# Altium integrated library ADLib_V11.IntLib: 13 symbols
Pins are listed as number, name and electrical type; pins without a type are passive.

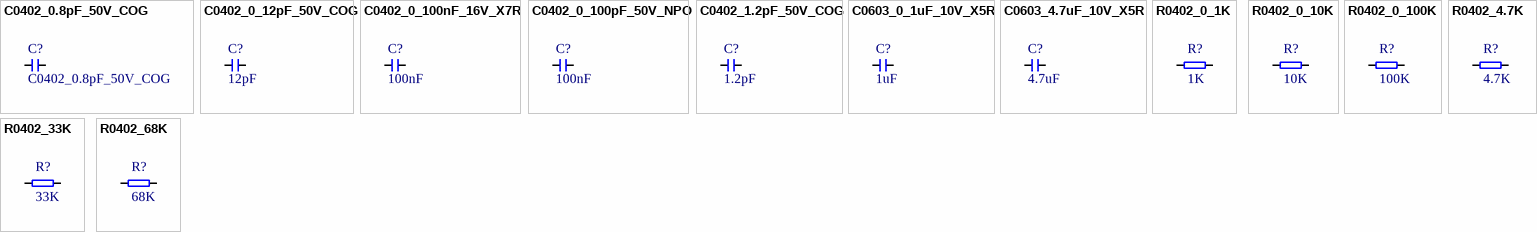
[diagram p0: symbols C0402_0.8pF_50V_COG to R0402_68K]

## C0402_0.8pF_50V_COG
designator C?
CAP0402,0.8pF, CC0402, CAP-CCER 0.8 pF B 50 VDC 0402 COG,##GRM1555C1HR80BA01D #Murata; Part Number: 280203304-00000-10; Common: NO; SMT: YES; Price(RMB): 0.01; Datasheet(URL): http://pan.baidu.com/s/1pLn1S19; RoHS: YES; Supplier: Murata
footprint C0402 (Chip Capacitor, 2-Leads, Body 1.00x0.50mm, IPC Medium Density)
pins: 1, 2

## C0402_0_12pF_50V_COG
designator C?, comment 12pF
CAP0402,12pF, CC0402, CAP-CCER 12 pF J 50 VDC 0402 COG; Part Number: 280201638-00000-10; Common: YES; Price(RMB): 0.01; RoHS: YES; SMT: YES
footprint C0402 (Chip Capacitor, 2-Leads, Body 1.00x0.50mm, IPC Medium Density)
pins: 1, 2

## C0402_0_100nF_16V_X7R
designator C?, comment 100nF
CAP0402,100nF, CC0402, CAP-CCER 100 nF K 16 VDC 0402 X7R, ##C0402X7R104K160NTB #EYANG; Part Number: 280201512-00000-10; Common: YES; Price(RMB): 0.01; SMT: YES; RoHS: YES; Supplier: EYANG; Datasheet(URL): http://pan.baidu.com/s/1jIpDSdo
footprint C0402 (Chip Capacitor, 2-Leads, Body 1.00x0.50mm, IPC Medium Density)
pins: 1, 2

## C0402_0_100pF_50V_NPO
designator C?, comment 100nF
CAP0402,100pF, CC0402, CAP-CCER 100 pF J 50 VDC 0402 NPO,##C0402C0G101J500NTB #EYANG; Part Number: 280201628-00000-10; Common: YES; Price(RMB): 0.01; SMT: YES; Supplier: EYANG; RoHS: YES; Datasheet(URL): http://pan.baidu.com/s/1jIpDSdo
footprint C0402 (Chip Capacitor, 2-Leads, Body 1.00x0.50mm, IPC Medium Density)
pins: 1, 2

## C0402_1.2pF_50V_COG
designator C?, comment 1.2pF
CAP0402,1.2pF, CC0402, CAP-CCER 1.2 pF C 50 VDC 0402 COG, ##GRM1555C1H1R2CZ01D #Murata; Part Number: 280200750-00000-10; SMT: YES; Common: NO; Price(RMB): 0.01; Supplier: Murata; RoHS: YES; Datasheet(URL): http://pan.baidu.com/s/1pLn1S19
footprint C0402 (Chip Capacitor, 2-Leads, Body 1.00x0.50mm, IPC Medium Density)
pins: 1, 2

## C0603_0_1uF_10V_X5R
designator C?, comment 1uF
CAP0603,1.0uF, CC0603, CAP-CCER 1 uF K 10 VDC 0603 X5R, ##0603ZD105KAT2A #AVX; Part Number: 280201484-00000-10; SMT: YES; Price(RMB): 0.015; RoHS: YES; Common: YES; Supplier: AVX
footprint C0603 (Chip Capacitor, 2-Leads, Body 1.60x0.80mm, IPC Medium Density)
pins: 1, 2

## C0603_4.7uF_10V_X5R
designator C?, comment 4.7uF
CAP0603,4.7uF, CC0603, CAP-CCER 4.7 uF K 10 VDC 0603 X5R, ##CL10A475KP8NNNC #Samsung; Part Number: 280202830-00000-10; SMT: YES; Common: NO; Price(RMB): 0.05; RoHS: YES; Datasheet(URL): http://pan.baidu.com/s/1i5ekBRn; Supplier: Samsung
footprint C0603 (Chip Capacitor, 2-Leads, Body 1.60x0.80mm, IPC Medium Density)
pins: 1, 2

## R0402_0_1K
designator R?, comment 1K
RES TFC 1 Kohm 0402 J 1/16W; Part Number: 280100929-00000-10; Price(RMB): 0.0024
footprint R0402 (Chip Resistor, 2-Leads, Body 1.00x0.50mm, IPC Medium Density)
pins: 1, 2

## R0402_0_10K
designator R?, comment 10K
RES TFC 10 Kohm 0402 J 1/16W; Part Number: 280100937-00000-10; Price(RMB): 0.0024
footprint R0402 (Chip Resistor, 2-Leads, Body 1.00x0.50mm, IPC Medium Density)
pins: 1, 2

## R0402_0_100K
designator R?, comment 100K
RES TFC 100 Kohm 0402 J 1/16W; Part Number: 280100941-00000-10; Price(RMB): 0.0024
footprint R0402 (Chip Resistor, 2-Leads, Body 1.00x0.50mm, IPC Medium Density)
pins: 1, 2

## R0402_4.7K
designator R?, comment 4.7K
RES TFC 4.7 Kohm 0402 J 1/16W; Part Number: 280101287-00000-10; Price(RMB): 0.0024
footprint R0402 (Chip Resistor, 2-Leads, Body 1.00x0.50mm, IPC Medium Density)
pins: 1, 2

## R0402_33K
designator R?, comment 33K
RES TFC 33 Kohm 0402 J 1/16W; Part Number: 280101205-00000-10; Price(RMB): 0.0024
footprint R0402 (Chip Resistor, 2-Leads, Body 1.00x0.50mm, IPC Medium Density)
pins: 1, 2

## R0402_68K
designator R?, comment 68K
RES TFC 68 Kohm 0402 F 1/16W; Part Number: 280101840-00000-10; Price(RMB): 0.0024
footprint R0402 (Chip Resistor, 2-Leads, Body 1.00x0.50mm, IPC Medium Density)
pins: 1, 2